# EAGLE library part TFT1.8_SD (library My_flight)
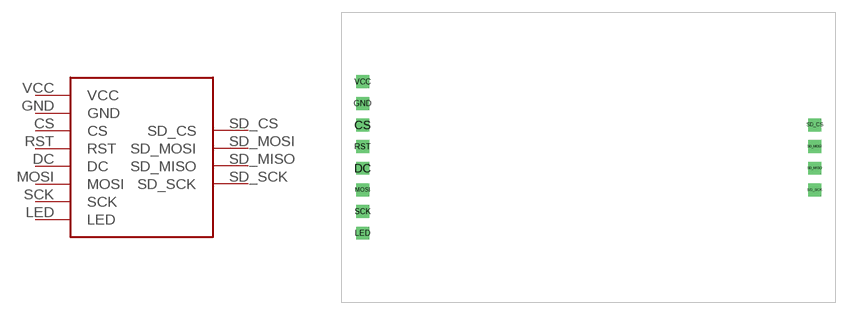
[diagram p2: symbol with the pads of TFT1.8_SD; footprint TFT1.8_SD]

Designator prefix -

## TFT1.8_SD  [TFT1.8_SD]
CS  CS
DC  DC
GND  GND
LED  LED
MOSI  MOSI
RST  RST
SCK  SCK
SD_CS  SD_CS
SD_MISO  SD_MISO
SD_MOSI  SD_MOSI
SD_SCK  SD_SCK
VCC  VCC

## Footprint TFT1.8_SD (pad centres in mm)
drill 1 square: CS 0,3.81; DC 0,-1.27; GND 0,6.35; LED 0,-8.89; MOSI 0,-3.81; RST 0,1.27; SCK 0,-6.35; SD_CS 53.04,3.81; SD_MISO 53.04,-1.27; SD_MOSI 53.04,1.27; SD_SCK 53.04,-3.81; VCC 0,8.89